# Altium schematic symbol library SD Socket.SchLib: 3 symbols
Pins are listed as number, name and electrical type; pins without a type are passive.

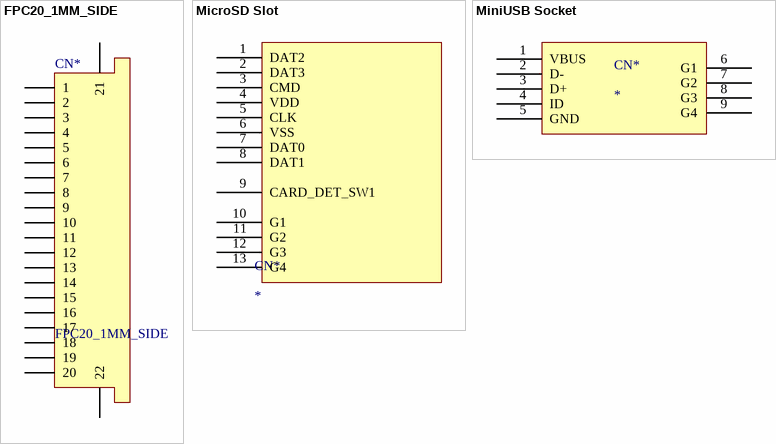
[diagram p0: symbols FPC20_1MM_SIDE to MiniUSB Socket]

## FPC20_1MM_SIDE
designator CN*
FPC Socket, 1mm pitch, 20-Pin, Side Mount; LatestRevisionDate: 17-Jul-2002; LatestRevisionNote: Re-released for DXP Platform.; Publisher: Altium Limited
footprint FPC20_1MM_SIDE (FPC Socket, 1mm pitch, 20-Pin, Side Mount)
pins: 1, 2, 3, 4, 5, 6, 7, 8, 9, 10, 11, 12, 13, 14, 15, 16, 17, 18, 19, 20, 21, 22

## MicroSD Slot
designator CN*
footprint MICROSD Slot (MicroSD Card Socket)
pins: 1 DAT2, 2 DAT3, 3 CMD, 4 VDD, 5 CLK, 6 VSS, 7 DAT0, 8 DAT1, 9 CARD_DET_SW1, 10 G1, 11 G2, 12 G3, 13 G4

## MiniUSB Socket
designator CN*
footprint MiniUSB Socket (Connector; USB2.0, Type B, SM; 5 Position; Right Angle)
pins: 1 VBUS, 2 D-, 3 D+, 4 ID, 5 GND, 6 G1, 7 G2, 8 G3, 9 G4